# Altium footprint library lora.PcbLib: 2 footprints
Each footprint in its own frame and in the unit in brackets; x right, y up, seen from the top. Pads: shape width x height; smd on the part's side, far side on the other; paste and mask are expansions set on the pad; w line width, h text height; cw(c..) or ccw(c..) is an arc to the next point about the centre after c.
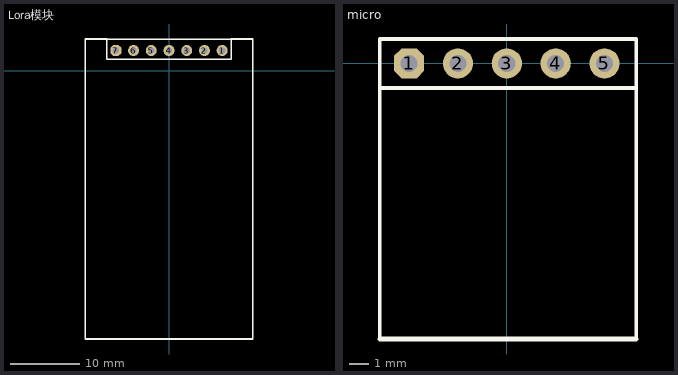
[diagram p0: the footprints below, top view; thin cyan lines are the x and y axes]

## Lora模块 [mil]
pads (7):
  round 62 hole 35: 1(300,115) 2(200,115) 3(100,115) 4(0,115) 5(-100,115) 6(-200,115)
  oct 62x62 hole 35: 7(-300,115)
Top Overlay:
  lines w8: -472.44,-1512.91 -472.44,180 ; 472.44,-1512.91 472.44,180 ; -350,65 350,65 350,180 -350,180 -350,65
  lines w10: -472.44,-1512.91 472.44,-1512.91 ; -472.44,180 -350,180 ; 350,180 472.44,180

## micro [mil]
pads (5):
  oct 62x62 hole 35: 1(-200,0)
  round 62 hole 35: 2(-100,0) 3(0,0) 4(100,0) 5(200,0)
Top Overlay:
  lines w8: -260,-564.17 -260,50 265,50 265,-564.17 ; -260,-50 265,-50
  lines w10: -260,-564.17 265,-564.17